# EAGLE library part 3X2_SMD_HEADER (library GRITSBot)
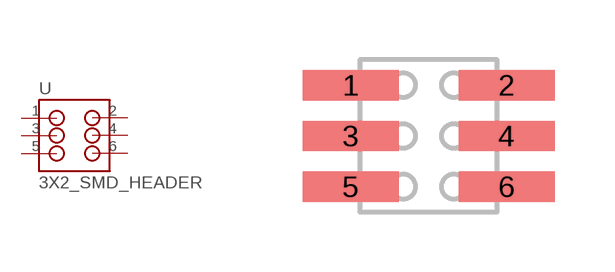
[diagram p9: symbol with the pads of 3X2_SMD_HEADER; footprint 3X2_SMD_HEADER]

Designator prefix -

## 3X2_SMD_HEADER  [3X2_SMD_HEADER]
1  1
2  2
3  3
4  4
5  5
6  6

## Footprint 3X2_SMD_HEADER (pad centres in mm)
smd 2.4 x 0.76: 1 -1.95,1.29; 2 1.95,1.29; 3 -1.95,0.02; 4 1.95,0.02; 5 -1.95,-1.25; 6 1.95,-1.25